# Altium schematic symbol library project_sch_library.SchLib: 3 symbols
Pins are listed as number, name and electrical type; pins without a type are passive.

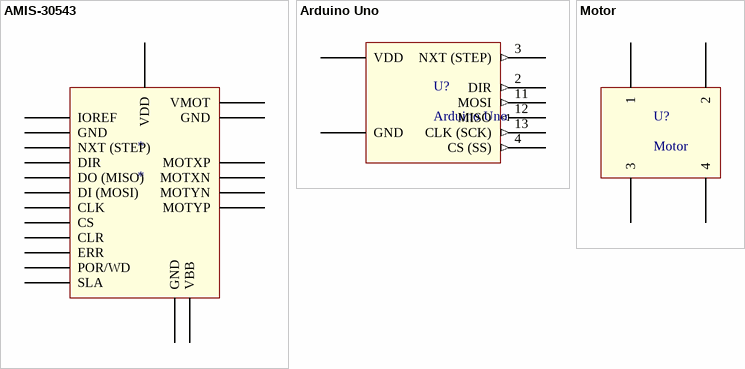
[diagram p0: symbols AMIS-30543 to Motor]

## AMIS-30543
designator *
pins: 7 VDD, 8 IOREF, 9 GND, 10 NXT (STEP), 11 DIR, 12 DO (MISO), 13 DI (MOSI), 14 CLK, 15 CS, 16 CLR, 17 ERR, 18 POR/WD, 19 SLA, 20 GND, 21 VBB, 22 MOTYP, 23 MOTYN, 24 MOTXN, 25 MOTXP, 26 GND, 27 VMOT

## Arduino Uno
designator U?
pins: 0 VDD, 1 GND, 2 DIR (out), 3 NXT (STEP) (out), 4 CS (SS) (out), 11 MOSI (out), 12 MISO (in), 13 CLK (SCK) (out)

## Motor
designator U?
pins: 28 1, 29 2, 30 4, 31 3